# Altium schematic symbol library GT_16u2_Rev2.SchLib: 1 symbol
Pins are listed as number, name and electrical type; pins without a type are passive.

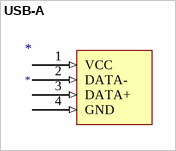
[diagram p0: symbol USB-A]

## USB-A
designator *
footprint USB A
pins: 1 VCC (in), 2 DATA- (in), 3 DATA+ (in), 4 GND (in)